# Altium footprint library Diode.PcbLib: 58 footprints (part 4 of 4)
Each footprint in its own frame and in the unit in brackets; x right, y up, seen from the top. Pads: shape width x height; smd on the part's side, far side on the other; paste and mask are expansions set on the pad; w line width, h text height; cw(c..) or ccw(c..) is an arc to the next point about the centre after c.
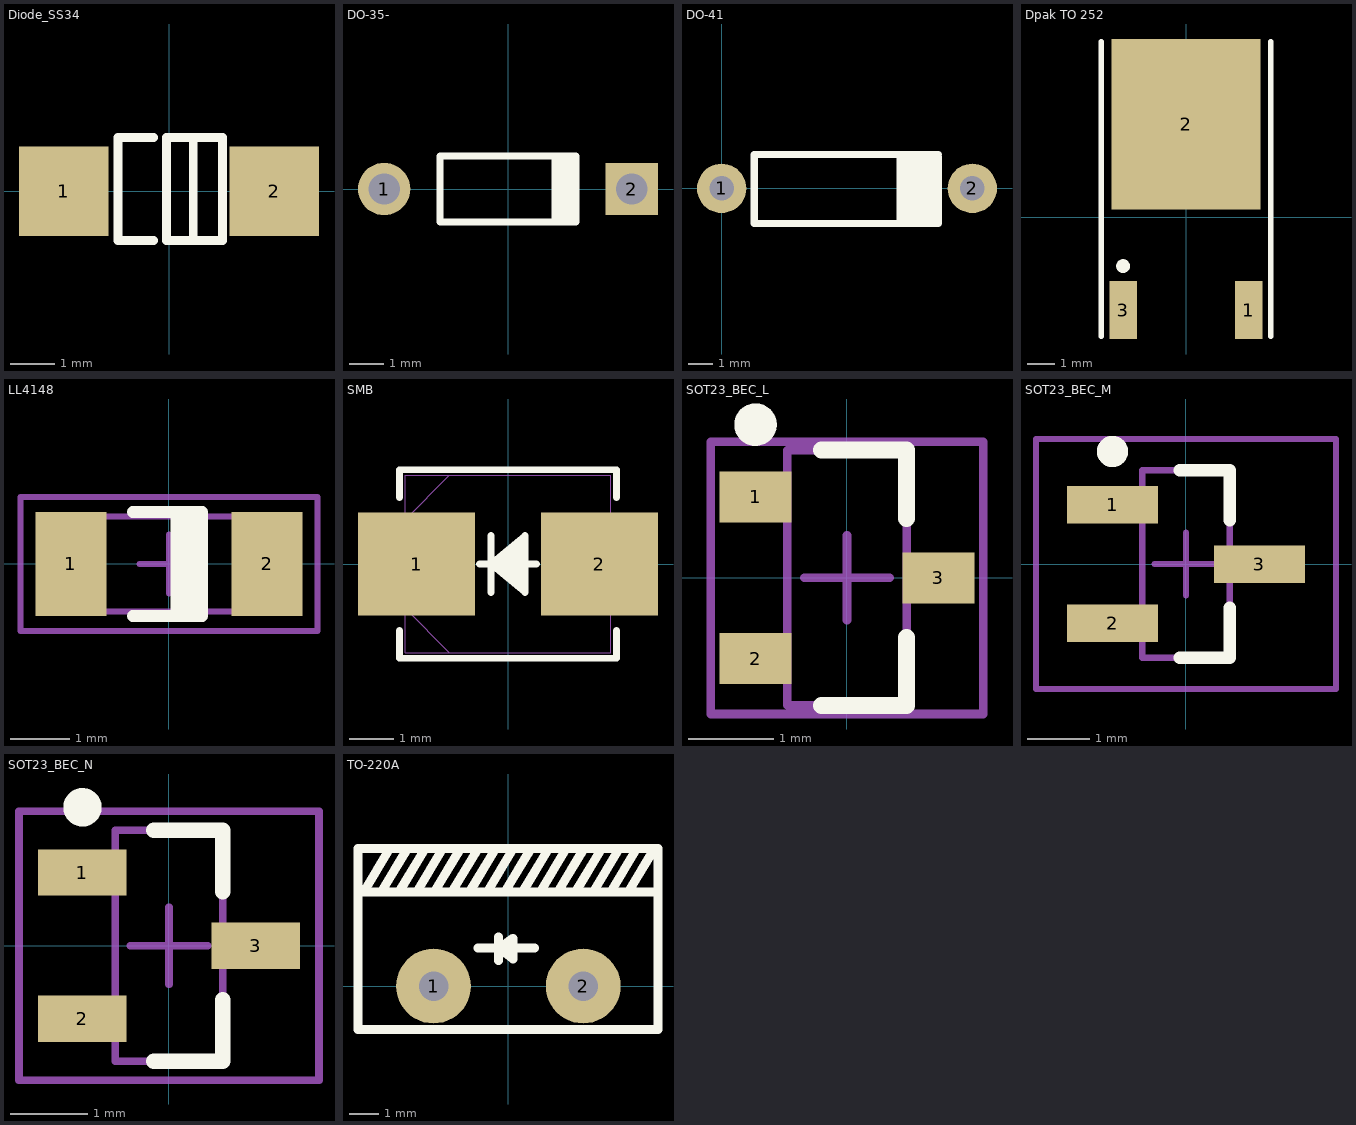
[diagram p3: the footprints below, top view; thin cyan lines are the x and y axes]

## Diode_SS34 [mm]
height 10.95
pads (2):
  rect 2x2 smd: 1(-2.35,0) 2(2.35,0)
Top Overlay:
  lines w0.2: -0.342,-1.1 -1.142,-1.1 -1.142,1.2 -0.342,1.2 ; 0.542,-1 0.542,1.1 ; -0.058,-1.1 1.192,-1.1 1.192,1.2 -0.058,1.2 -0.058,-1.1
3D body "SW3DPS-DIOD SMD 10BF10-DEFAULT.STEP": height 2.4, standoff -0.03, extent -2.574,-1.822 2.726,1.778

## DO-35- [mm] "Diode, Axial; Body 3.8 x 1.9 mm (LxDia. max), Lead Dia. 0.53 mm (max)"
height 1.9
pads (2):
  round 1.5 hole 0.9: 1(-3.55,0)
  rect 1.5x1.5 hole 0.9: 2(3.55,0)
Top Overlay:
  rectangle: 1.25,-0.95 2.05,0.95
  lines w0.2: 1.95,-0.95 -1.95,-0.95 -1.95,0.95 1.95,0.95
3D body "SW3dPS-do_35.STEP": height 1.89, standoff -2.29, extent -3.816,-0.874 3.816,0.875

## DO-41 [mm]
pads (2):
  round 2 hole 1: 1(0,0) 2(10.16,0)
Top Overlay:
  rectangle: 7.087,-1.422 8.941,1.321
  lines w0.3: 8.788,-1.422 1.321,-1.422 1.321,1.372 8.788,1.372
3D body "User Library-DO-41-2.step": height 2.67, standoff -2.65, extent -0.432,-1.36 10.592,1.36

## Dpak TO 252 [mm]
pads (3):
  rect 1x2.1 smd: 1(2.285,-3.375) 3(-2.285,-3.375)
  rect 5.4x6.2 smd: 2(0,3.375)
Top Overlay:
  circle w0.25: c-2.285,-1.775 r0.125
  lines w0.2: -3.085,-4.325 -3.085,6.375 ; 3.085,-4.325 3.085,6.375
3D body "User Library-DPAK-1.step": height 2.39, standoff -0.02, extent -3.27,-4.111 3.27,5.828

## LL4148 [mm] "MELF Diode, 2-Leads, Body 3.5x1.4mm, IPC Medium Density"
height 1.6
pads (2):
  rect 1.2x1.75 smd: 1(-1.65,0) 2(1.65,0)
Top Overlay:
  region: 0.573,0.875 0.023,0.875 0.023,-0.875 0.573,-0.875
  lines w0.2: -0.61,-0.875 0.559,-0.875 0.559,0.875 -0.61,0.875
Mechanical 1:
  rectangle: -1.85,-0.8 -1.352,0.8
  lines w0.1: -1.85,-0.8 -1.85,0.8 1.85,0.8 1.85,-0.8 -1.85,-0.8
Mechanical 15:
  lines w0.1: -0.5,0 0.5,0 ; 0,-0.5 0,0.5 ; -2.5,-1.125 2.5,-1.125 2.5,1.125 -2.5,1.125 -2.5,-1.125
3D body "User Library-Diode MELF.STEP": height 1.55, standoff 0.05, extent -1.775,-0.75 1.725,0.75

## SMB [mil]
pads (2):
  rect 103x91 smd: 1(-80.5,0) 2(80.5,0)
Top Overlay:
  lines w6: -95.5,-58.6 -95.5,-83 95.5,-83 95.5,-58.6 ; -95.5,58.6 -95.5,83 95.5,83 95.5,58.6 ; -25,0 25,0 ; -15,-25 -15,25 ; 15,-20 -15,0 ; 15,-15 -15,0 ; 15,-10 -15,0 ; 15,-5 -15,0 ; 15,5 -15,0 ; 15,10 -15,0 ; 15,15 -15,0 ; 15,20 -15,0 ; -15,0 15,25 15,-25 -15,0
Mechanical 1:
  lines w1: -90.5,-39 -51.5,-78 ; -90.5,39 -51.5,78 ; -25,0 25,0 ; -15,-25 -15,25 ; 15,-20 -15,0 ; 15,-15 -15,0 ; 15,-10 -15,0 ; 15,-5 -15,0 ; 15,5 -15,0 ; 15,10 -15,0 ; 15,15 -15,0 ; 15,20 -15,0 ; -15,0 15,25 15,-25 -15,0 ; -110,-43.5 -110,43.5 -90.5,43.5 -90.5,-43.5 -110,-43.5 ; -90.5,-78 90.5,-78 90.5,78 -90.5,78 -90.5,-78 ; 90.5,-43.5 90.5,43.5 110,43.5 110,-43.5 90.5,-43.5
3D body "User Library-SMBJ33CAHE3.STEP": height 96.1, standoff -0.2, extent -110.04,-78 110.04,77.12

## SOT23_BEC_L [mm] "SOT23, 3-Leads, Body 2.9x1.3mm, Pitch 0.95mm, Lead Span 2.4mm, IPC High Density"
height 1.14
pads (3):
  rect 0.85x0.6 smd: 1(-1.075,0.95) 2(-1.075,-0.95) 3(1.075,0)
Top Overlay:
  circle w0.25: c-1.075,1.8 r0.125
  lines w0.2: -0.3,-1.5 0.7,-1.5 0.7,-0.7 ; -0.3,1.5 0.7,1.5 0.7,0.7
Mechanical 13:
  lines w0.1: -0.7,-1.5 0.7,-1.5 0.7,1.5 -0.7,1.5 -0.7,-1.5
Mechanical 15:
  lines w0.1: -0.5,0 0.5,0 ; 0,-0.5 0,0.5 ; -1.6,-1.6 1.6,-1.6 1.6,1.6 -1.6,1.6 -1.6,-1.6
3D body "User Library-N-MOS_BSS123_SOT23.STEP": height 1, standoff 0, extent -1.225,-1.45 1.075,1.45

## SOT23_BEC_M [mm] "SOT23, 3-Leads, Body 2.9x1.3mm, Pitch 0.95mm, Lead Span 2.4mm, IPC Low Density"
height 1.14
pads (3):
  rect 1.45x0.6 smd: 1(-1.175,0.95) 2(-1.175,-0.95) 3(1.175,0)
Top Overlay:
  circle w0.25: c-1.175,1.8 r0.125
  lines w0.2: -0.1,-1.5 0.7,-1.5 0.7,-0.7 ; -0.1,1.5 0.7,1.5 0.7,0.7
Mechanical 13:
  lines w0.1: -0.7,-1.5 -0.7,1.5 0.7,1.5 0.7,-1.5 -0.7,-1.5
Mechanical 15:
  lines w0.1: -0.5,0 0.5,0 ; 0,-0.5 0,0.5 ; -2.4,-2 -2.4,2 2.4,2 2.4,-2 -2.4,-2
3D body "User Library-N-MOS_BSS123_SOT23.STEP": height 1, standoff 0, extent -1.225,-1.45 1.075,1.45

## SOT23_BEC_N [mm] "SOT23, 3-Leads, Body 2.9x1.3mm, Pitch 0.95mm, Lead Span 2.4mm, IPC Medium Density"
height 1.14
pads (3):
  rect 1.15x0.6 smd: 1(-1.125,0.95) 2(-1.125,-0.95) 3(1.125,0)
Top Overlay:
  circle w0.25: c-1.125,1.8 r0.125
  lines w0.2: -0.2,-1.5 0.7,-1.5 0.7,-0.7 ; -0.2,1.5 0.7,1.5 0.7,0.7
Mechanical 13:
  lines w0.1: -0.7,-1.5 -0.7,1.5 0.7,1.5 0.7,-1.5 -0.7,-1.5
Mechanical 15:
  lines w0.1: -0.5,0 0.5,0 ; 0,-0.5 0,0.5 ; -1.95,-1.75 -1.95,1.75 1.95,1.75 1.95,-1.75 -1.95,-1.75
3D body "User Library-N-MOS_BSS123_SOT23.STEP": height 1, standoff 0, extent -1.225,-1.45 1.075,1.45

## TO-220A [mm]
pads (2):
  round 2.54 hole 1: 1(-2.54,0) 2(2.54,0)
Top Overlay:
  lines w0.3: -4.913,3.2 -4.024,4.674 ; -4.314,3.2 -3.425,4.674 ; -3.714,3.2 -2.825,4.674 ; -3.115,3.2 -2.226,4.674 ; -2.516,3.2 -1.627,4.674 ; -1.917,3.2 -1.028,4.674 ; -1.318,3.2 -0.429,4.674 ; -1.041,1.295 -0.305,1.295 ; -0.719,3.2 0.17,4.674 ; -0.33,1.676 -0.33,0.864 -0.305,1.295 ; -0.12,3.2 0.769,4.674 ; 0.48,3.2 1.369,4.674 ; 0.889,1.295 0.152,1.295 ; 1.079,3.2 1.968,4.674 ; 1.678,3.2 2.567,4.674 ; 2.277,3.2 3.166,4.674 ; 2.876,3.2 3.765,4.674 ; 3.475,3.2 4.364,4.674 ; 4.074,3.2 4.963,4.674 ; -5.105,3.2 -5.105,-1.473 5.08,-1.473 5.08,3.2 ; -5.105,3.2 5.08,3.2 ; -5.105,3.2 -5.105,4.674 5.08,4.674 5.08,3.2 ; -0.305,1.295 0.152,1.295 ; -0.305,1.295 0.152,0.914 ; -0.305,1.295 0.152,1.626 0.152,0.914 ; 0.152,0.914 0.152,1.295
3D body "CircuitWorks-TO-220HS.STEP": height 18.54, standoff -3.81, extent -5.08,-1.397 5.08,3.175